# Altium integrated library Linear Technology Power Management Switching Regulator LT1074-LT8705.IntLib: 2252 symbols (part 136 of 148)
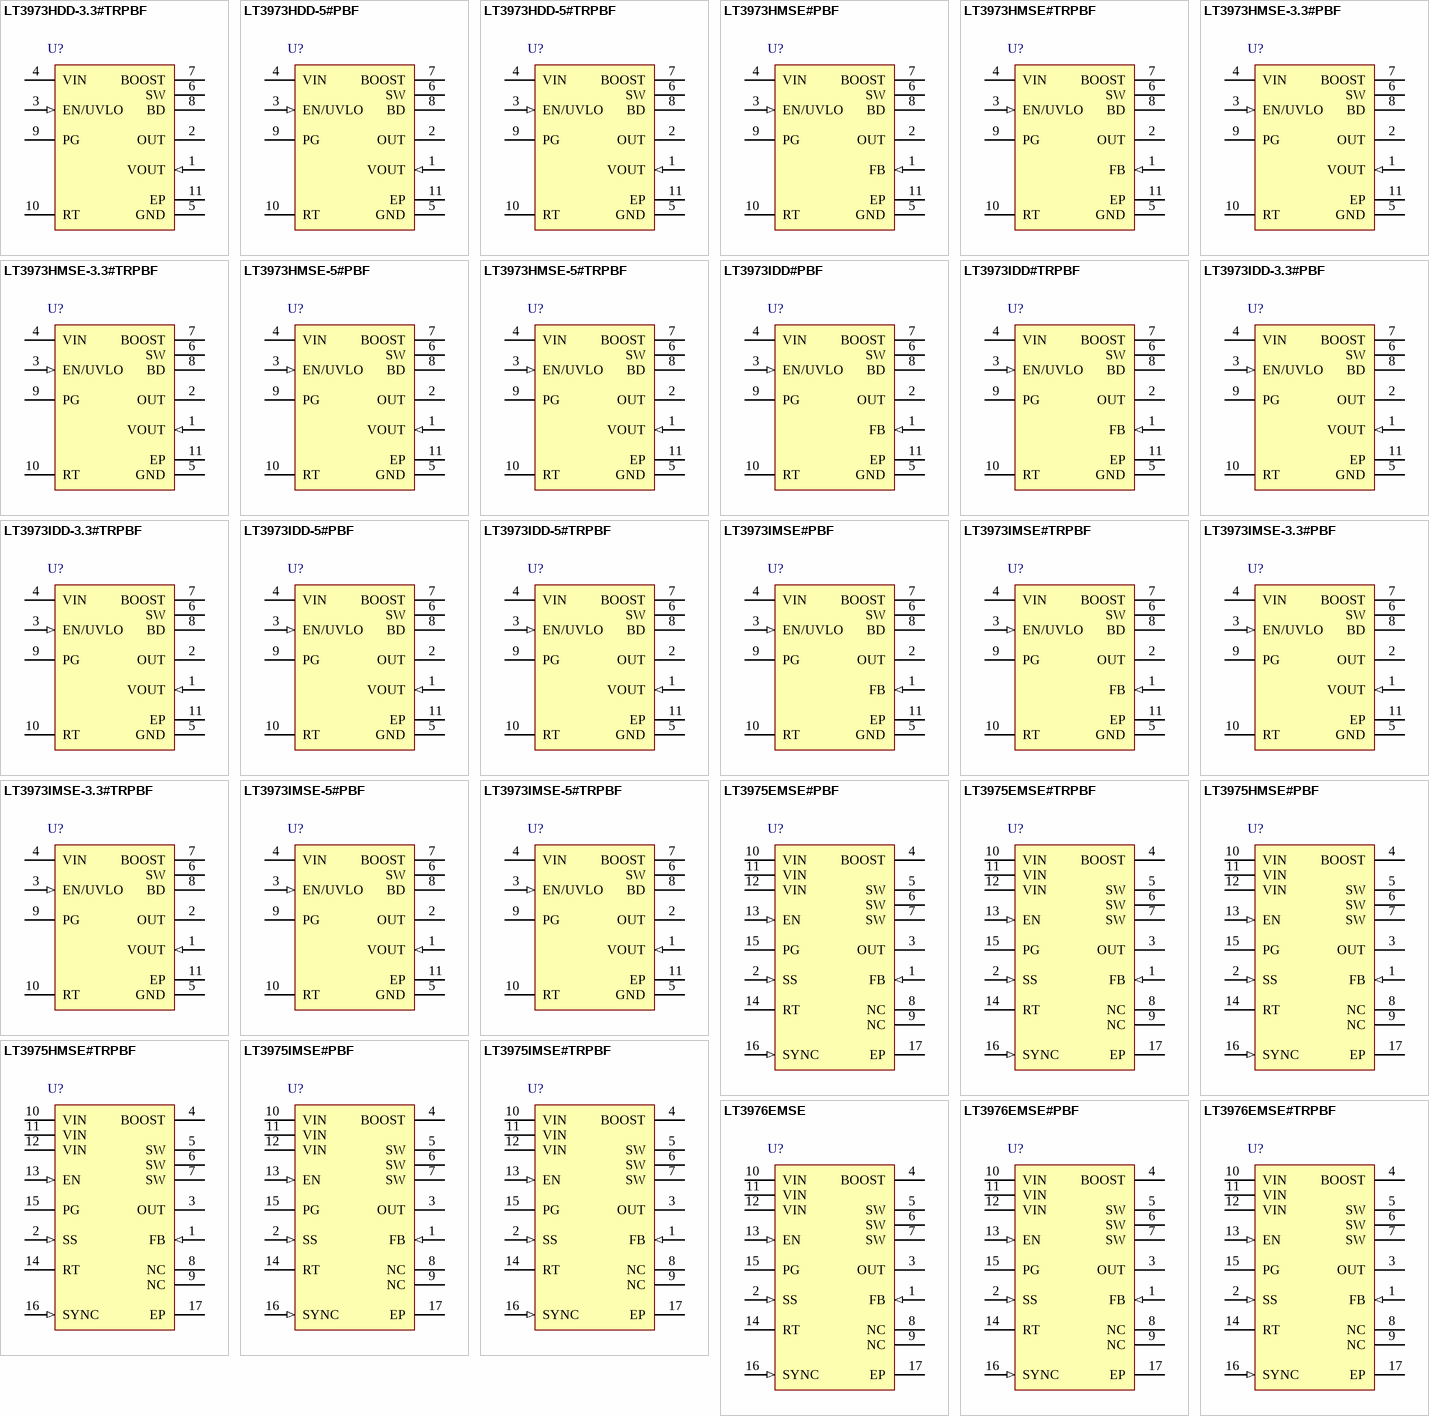
[diagram p206: symbols LT3973HDD-3.3#TRPBF to LT3976EMSE#TRPBF]

## LT3973IMSE#TRPBF
designator U?
750 mA Step-Down Regulator with 2.5 uA Quiescent Current and Integrated Diodes, 10-pin SOP (MSE-10-EDP), -40 to 125 degC, Pb-Free, Tape and Reel; Manufacturer: Linear Technology; PartNumber: LT3973IMSE#TRPBF; Frequency Adjust Range: 200kHz - 2.2MHz; Number of Outputs: 1; DatasheetVersion: Rev. A; PackageVersion: Rev. I, 05/2013; PackageReference: MSE-10; PackageDescription: 10-Pin Plastic MSOP, Exposed Die Pad, Body 3 x 3 mm, Pitch 0.5 mm; Supplier 1: Digi-Key; Supplier Part Number 1: LT3973IMSE#TRPBF-ND; Supplier 2: Newark; Supplier Part Number 2: 78T4085; Packing: Tape and Reel; RoHS: TRUE; Mounting Technology: Surface Mount; ComponentLink1Description: Manufacturer URL; ComponentLink1URL: http://www.linear.com/; ComponentLink2Description: Datasheet; ComponentLink2URL: http://cds.linear.com/docs/en/datasheet/3973fa.pdf; ComponentLink3Description: Package Specification; ComponentLink3URL: http://cds.linear.com/docs/en/packaging/05081664_I_MSE.pdf
footprint LT-MSE-10-EDP_N (SOP, 10-Leads, Body 3.1x3.1mm, Pitch 0.5mm, Thermal Pad 1.88x1.68mm, IPC Medium Density)
footprint LT-MSE-10-EDP_L (SOP, 10-Leads, Body 3.1x3.1mm, Pitch 0.5mm, Thermal Pad 1.88x1.68mm, IPC High Density)
footprint LT-MSE-10-EDP_M (SOP, 10-Leads, Body 3.1x3.1mm, Pitch 0.5mm, Thermal Pad 1.88x1.68mm, IPC Low Density)
pins: 1 FB (in) "The LT3973 regulates the FB  pin to 1.21V. Connect the feedback resistor divider tap  to this pin.", 2 OUT (power) "The LT3973 regulates the VIN to VOUT voltage for dropout conditions. It will also pull current from this pin to charge the boost capacitor when needed. Connect this pin to the output. If programmed output is greater than (See Datasheet)", 3 EN/UVLO (in) "The part is in shutdown when this pin is low and active when this pin is high. The threshold voltage is 1.19V going up with 30mV of hysteresis. Tie to VIN if shutdown feature is not used. The EN/UVLO threshold is accurate (See Datasheet)", 4 VIN (power) "The VIN pin supplies current to the LT3973's  internal circuitry and to the internal power switch. This pin must be locally bypassed.", 5 GND (power) "Ground. The exposed pad must be soldered to the PCB.", 6 SW (power) "The SW pin is the output of an internal power switch. Connect this pin to the inductor.", 7 BOOST "This pin is used to provide a drive voltage, higher than the input voltage, to the internal bipolar NPN power switch.", 8 BD (power) "This pin connects to the anode of the boost diode. This pin also supplies current to the LT3973's internal  regulator when BD is above 3.2V.", 9 PG (oc) "The PG pin is the open-drain output of an internal comparator. PG remains low until the FB pin is within 10% of the final regulation voltage. PG is valid when VIN is above 4.2V and EN/UVLO is high.", 10 RT "A resistor is tied between RT and ground to set the switching frequency.", 11 EP (power) "Ground. The exposed pad must be soldered to the PCB."

## LT3973IMSE-3.3#PBF
designator U?
750 mA Step-Down Regulator with 2.5 uA Quiescent Current and Integrated Diodes, 10-pin SOP (MSE-10-EDP), -40 to 125 degC, Pb-Free; Manufacturer: Linear Technology; PartNumber: LT3973IMSE-3.3#PBF; Frequency Adjust Range: 200kHz - 2.2MHz; Number of Outputs: 1; DatasheetVersion: Rev. A; PackageVersion: Rev. I, 05/2013; PackageReference: MSE-10; PackageDescription: 10-Pin Plastic MSOP, Exposed Die Pad, Body 3 x 3 mm, Pitch 0.5 mm; Supplier 1: Digi-Key; Supplier Part Number 1: LT3973IMSE-3.3#PBF-ND; Supplier 2: Farnell; Supplier Part Number 2: 2115835; Supplier 3: Newark; Supplier Part Number 3: 94T2285; RoHS: TRUE; Mounting Technology: Surface Mount; ComponentLink1Description: Manufacturer URL; ComponentLink1URL: http://www.linear.com/; ComponentLink2Description: Datasheet; ComponentLink2URL: http://cds.linear.com/docs/en/datasheet/3973fa.pdf; ComponentLink3Description: Package Specification; ComponentLink3URL: http://cds.linear.com/docs/en/packaging/05081664_I_MSE.pdf
footprint LT-MSE-10-EDP_N (SOP, 10-Leads, Body 3.1x3.1mm, Pitch 0.5mm, Thermal Pad 1.88x1.68mm, IPC Medium Density)
footprint LT-MSE-10-EDP_L (SOP, 10-Leads, Body 3.1x3.1mm, Pitch 0.5mm, Thermal Pad 1.88x1.68mm, IPC High Density)
footprint LT-MSE-10-EDP_M (SOP, 10-Leads, Body 3.1x3.1mm, Pitch 0.5mm, Thermal Pad 1.88x1.68mm, IPC Low Density)
pins: 1 VOUT (in) "The  LT3973-3.3 and LT3973-5 regulate the VOUT pin to 3.3V  and 5V, respectively. This pin connects to the internal feedback divider that programs the fixed output voltage.", 2 OUT (power) "The LT3973 regulates the VIN to VOUT voltage for dropout conditions. It will also pull current from this pin to charge the boost capacitor when needed. Connect this pin to the output. If programmed output is greater than (See Datasheet)", 3 EN/UVLO (in) "The part is in shutdown when this pin is low and active when this pin is high. The threshold voltage is 1.19V going up with 30mV of hysteresis. Tie to VIN if shutdown feature is not used. The EN/UVLO threshold is accurate (See Datasheet)", 4 VIN (power) "The VIN pin supplies current to the LT3973's  internal circuitry and to the internal power switch. This pin must be locally bypassed.", 5 GND (power) "Ground. The exposed pad must be soldered to the PCB.", 6 SW (power) "The SW pin is the output of an internal power switch. Connect this pin to the inductor.", 7 BOOST "This pin is used to provide a drive voltage, higher than the input voltage, to the internal bipolar NPN power switch.", 8 BD (power) "This pin connects to the anode of the boost diode. This pin also supplies current to the LT3973's internal  regulator when BD is above 3.2V.", 9 PG (oc) "The PG pin is the open-drain output of an internal comparator. PG remains low until the FB pin is within 10% of the final regulation voltage. PG is valid when VIN is above 4.2V and EN/UVLO is high.", 10 RT "A resistor is tied between RT and ground to set the switching frequency.", 11 EP (power) "Ground. The exposed pad must be soldered to the PCB."

## LT3973IMSE-3.3#TRPBF
designator U?
750 mA Step-Down Regulator with 2.5 uA Quiescent Current and Integrated Diodes, 10-pin SOP (MSE-10-EDP), -40 to 125 degC, Pb-Free, Tape and Reel; Manufacturer: Linear Technology; PartNumber: LT3973IMSE-3.3#TRPBF; Frequency Adjust Range: 200kHz - 2.2MHz; Number of Outputs: 1; DatasheetVersion: Rev. A; PackageVersion: Rev. I, 05/2013; PackageReference: MSE-10; PackageDescription: 10-Pin Plastic MSOP, Exposed Die Pad, Body 3 x 3 mm, Pitch 0.5 mm; Supplier 1: Digi-Key; Supplier Part Number 1: LT3973IMSE-3.3#TRPBF-ND; Supplier 2: Newark; Supplier Part Number 2: 94T2286; Packing: Tape and Reel; RoHS: TRUE; Mounting Technology: Surface Mount; ComponentLink1Description: Manufacturer URL; ComponentLink1URL: http://www.linear.com/; ComponentLink2Description: Datasheet; ComponentLink2URL: http://cds.linear.com/docs/en/datasheet/3973fa.pdf; ComponentLink3Description: Package Specification; ComponentLink3URL: http://cds.linear.com/docs/en/packaging/05081664_I_MSE.pdf
footprint LT-MSE-10-EDP_N (SOP, 10-Leads, Body 3.1x3.1mm, Pitch 0.5mm, Thermal Pad 1.88x1.68mm, IPC Medium Density)
footprint LT-MSE-10-EDP_L (SOP, 10-Leads, Body 3.1x3.1mm, Pitch 0.5mm, Thermal Pad 1.88x1.68mm, IPC High Density)
footprint LT-MSE-10-EDP_M (SOP, 10-Leads, Body 3.1x3.1mm, Pitch 0.5mm, Thermal Pad 1.88x1.68mm, IPC Low Density)
pins: 1 VOUT (in) "The  LT3973-3.3 and LT3973-5 regulate the VOUT pin to 3.3V  and 5V, respectively. This pin connects to the internal feedback divider that programs the fixed output voltage.", 2 OUT (power) "The LT3973 regulates the VIN to VOUT voltage for dropout conditions. It will also pull current from this pin to charge the boost capacitor when needed. Connect this pin to the output. If programmed output is greater than (See Datasheet)", 3 EN/UVLO (in) "The part is in shutdown when this pin is low and active when this pin is high. The threshold voltage is 1.19V going up with 30mV of hysteresis. Tie to VIN if shutdown feature is not used. The EN/UVLO threshold is accurate (See Datasheet)", 4 VIN (power) "The VIN pin supplies current to the LT3973's  internal circuitry and to the internal power switch. This pin must be locally bypassed.", 5 GND (power) "Ground. The exposed pad must be soldered to the PCB.", 6 SW (power) "The SW pin is the output of an internal power switch. Connect this pin to the inductor.", 7 BOOST "This pin is used to provide a drive voltage, higher than the input voltage, to the internal bipolar NPN power switch.", 8 BD (power) "This pin connects to the anode of the boost diode. This pin also supplies current to the LT3973's internal  regulator when BD is above 3.2V.", 9 PG (oc) "The PG pin is the open-drain output of an internal comparator. PG remains low until the FB pin is within 10% of the final regulation voltage. PG is valid when VIN is above 4.2V and EN/UVLO is high.", 10 RT "A resistor is tied between RT and ground to set the switching frequency.", 11 EP (power) "Ground. The exposed pad must be soldered to the PCB."

## LT3973IMSE-5#PBF
designator U?
750 mA Step-Down Regulator with 2.5 uA Quiescent Current and Integrated Diodes, 10-pin SOP (MSE-10-EDP), -40 to 125 degC, Pb-Free; Manufacturer: Linear Technology; PartNumber: LT3973IMSE-5#PBF; Frequency Adjust Range: 200kHz - 2.2MHz; Number of Outputs: 1; DatasheetVersion: Rev. A; PackageVersion: Rev. I, 05/2013; PackageReference: MSE-10; PackageDescription: 10-Pin Plastic MSOP, Exposed Die Pad, Body 3 x 3 mm, Pitch 0.5 mm; Supplier 1: Digi-Key; Supplier Part Number 1: LT3973IMSE-5#PBF-ND; Supplier 2: Farnell; Supplier Part Number 2: 2115836; RoHS: TRUE; Mounting Technology: Surface Mount; ComponentLink1Description: Manufacturer URL; ComponentLink1URL: http://www.linear.com/; ComponentLink2Description: Datasheet; ComponentLink2URL: http://cds.linear.com/docs/en/datasheet/3973fa.pdf; ComponentLink3Description: Package Specification; ComponentLink3URL: http://cds.linear.com/docs/en/packaging/05081664_I_MSE.pdf
footprint LT-MSE-10-EDP_N (SOP, 10-Leads, Body 3.1x3.1mm, Pitch 0.5mm, Thermal Pad 1.88x1.68mm, IPC Medium Density)
footprint LT-MSE-10-EDP_L (SOP, 10-Leads, Body 3.1x3.1mm, Pitch 0.5mm, Thermal Pad 1.88x1.68mm, IPC High Density)
footprint LT-MSE-10-EDP_M (SOP, 10-Leads, Body 3.1x3.1mm, Pitch 0.5mm, Thermal Pad 1.88x1.68mm, IPC Low Density)
pins: 1 VOUT (in) "The  LT3973-3.3 and LT3973-5 regulate the VOUT pin to 3.3V  and 5V, respectively. This pin connects to the internal feedback divider that programs the fixed output voltage.", 2 OUT (power) "The LT3973 regulates the VIN to VOUT voltage for dropout conditions. It will also pull current from this pin to charge the boost capacitor when needed. Connect this pin to the output. If programmed output is greater than (See Datasheet)", 3 EN/UVLO (in) "The part is in shutdown when this pin is low and active when this pin is high. The threshold voltage is 1.19V going up with 30mV of hysteresis. Tie to VIN if shutdown feature is not used. The EN/UVLO threshold is accurate (See Datasheet)", 4 VIN (power) "The VIN pin supplies current to the LT3973's  internal circuitry and to the internal power switch. This pin must be locally bypassed.", 5 GND (power) "Ground. The exposed pad must be soldered to the PCB.", 6 SW (power) "The SW pin is the output of an internal power switch. Connect this pin to the inductor.", 7 BOOST "This pin is used to provide a drive voltage, higher than the input voltage, to the internal bipolar NPN power switch.", 8 BD (power) "This pin connects to the anode of the boost diode. This pin also supplies current to the LT3973's internal  regulator when BD is above 3.2V.", 9 PG (oc) "The PG pin is the open-drain output of an internal comparator. PG remains low until the FB pin is within 10% of the final regulation voltage. PG is valid when VIN is above 4.2V and EN/UVLO is high.", 10 RT "A resistor is tied between RT and ground to set the switching frequency.", 11 EP (power) "Ground. The exposed pad must be soldered to the PCB."

## LT3973IMSE-5#TRPBF
designator U?
750 mA Step-Down Regulator with 2.5 uA Quiescent Current and Integrated Diodes, 10-pin SOP (MSE-10-EDP), -40 to 125 degC, Pb-Free, Tape and Reel; Manufacturer: Linear Technology; PartNumber: LT3973IMSE-5#TRPBF; Frequency Adjust Range: 200kHz - 2.2MHz; Number of Outputs: 1; DatasheetVersion: Rev. A; PackageVersion: Rev. I, 05/2013; PackageReference: MSE-10; PackageDescription: 10-Pin Plastic MSOP, Exposed Die Pad, Body 3 x 3 mm, Pitch 0.5 mm; Supplier 1: Digi-Key; Supplier Part Number 1: LT3973IMSE-5#TRPBF-ND; Packing: Tape and Reel; RoHS: TRUE; Mounting Technology: Surface Mount; ComponentLink1Description: Manufacturer URL; ComponentLink1URL: http://www.linear.com/; ComponentLink2Description: Datasheet; ComponentLink2URL: http://cds.linear.com/docs/en/datasheet/3973fa.pdf; ComponentLink3Description: Package Specification; ComponentLink3URL: http://cds.linear.com/docs/en/packaging/05081664_I_MSE.pdf
footprint LT-MSE-10-EDP_N (SOP, 10-Leads, Body 3.1x3.1mm, Pitch 0.5mm, Thermal Pad 1.88x1.68mm, IPC Medium Density)
footprint LT-MSE-10-EDP_L (SOP, 10-Leads, Body 3.1x3.1mm, Pitch 0.5mm, Thermal Pad 1.88x1.68mm, IPC High Density)
footprint LT-MSE-10-EDP_M (SOP, 10-Leads, Body 3.1x3.1mm, Pitch 0.5mm, Thermal Pad 1.88x1.68mm, IPC Low Density)
pins: 1 VOUT (in) "The  LT3973-3.3 and LT3973-5 regulate the VOUT pin to 3.3V  and 5V, respectively. This pin connects to the internal feedback divider that programs the fixed output voltage.", 2 OUT (power) "The LT3973 regulates the VIN to VOUT voltage for dropout conditions. It will also pull current from this pin to charge the boost capacitor when needed. Connect this pin to the output. If programmed output is greater than (See Datasheet)", 3 EN/UVLO (in) "The part is in shutdown when this pin is low and active when this pin is high. The threshold voltage is 1.19V going up with 30mV of hysteresis. Tie to VIN if shutdown feature is not used. The EN/UVLO threshold is accurate (See Datasheet)", 4 VIN (power) "The VIN pin supplies current to the LT3973's  internal circuitry and to the internal power switch. This pin must be locally bypassed.", 5 GND (power) "Ground. The exposed pad must be soldered to the PCB.", 6 SW (power) "The SW pin is the output of an internal power switch. Connect this pin to the inductor.", 7 BOOST "This pin is used to provide a drive voltage, higher than the input voltage, to the internal bipolar NPN power switch.", 8 BD (power) "This pin connects to the anode of the boost diode. This pin also supplies current to the LT3973's internal  regulator when BD is above 3.2V.", 9 PG (oc) "The PG pin is the open-drain output of an internal comparator. PG remains low until the FB pin is within 10% of the final regulation voltage. PG is valid when VIN is above 4.2V and EN/UVLO is high.", 10 RT "A resistor is tied between RT and ground to set the switching frequency.", 11 EP (power) "Ground. The exposed pad must be soldered to the PCB."

## LT3975EMSE#PBF
designator U?
2.5 A, 2 MHz Step-Down Switching Regulator with 2.7 uA Quiescent Current, 16-pin SOP (MSE-16-EDP), -40 to 125 degC, Pb-Free; Manufacturer: Linear Technology; PartNumber: LT3975EMSE#PBF; Frequency Adjust Range: 200kHz - 2MHz; Number of Outputs: 1; PackageVersion: Rev. F, 05/2013; PackageReference: MSE-16; PackageDescription: 16-Pin Plastic MSOP, Exposed Die Pad, Body 4.039 x 3 mm, Pitch 0.5 mm; Supplier 1: Digi-Key; Supplier Part Number 1: LT3975EMSE#PBF-ND; Supplier 2: Newark; Supplier Part Number 2: 24W5394; RoHS: TRUE; Mounting Technology: Surface Mount; ComponentLink1Description: Manufacturer URL; ComponentLink1URL: http://www.linear.com/; ComponentLink2Description: Datasheet; ComponentLink2URL: http://cds.linear.com/docs/en/datasheet/3975f.pdf; ComponentLink3Description: Package Specification; ComponentLink3URL: http://cds.linear.com/docs/en/packaging/05081667_F_MSE16.pdf
footprint LT-MSE-16-EDP_N (SOP, 16-Leads, Body 4.1x3.1mm, Pitch 0.5mm, Thermal Pad 2.95x1.76mm, IPC Medium Density)
footprint LT-MSE-16-EDP_L (SOP, 16-Leads, Body 4.1x3.1mm, Pitch 0.5mm, Thermal Pad 2.95x1.76mm, IPC High Density)
footprint LT-MSE-16-EDP_M (SOP, 16-Leads, Body 4.1x3.1mm, Pitch 0.5mm, Thermal Pad 2.95x1.76mm, IPC Low Density)
pins: 1 FB (in) "The LT3976 regulates the FB pin to 1.197V. Connect the feedback resistor divider tap to this pin. Also, connect a phase lead capacitor between FB and the output. Typically, this capacitor is 10pF.", 2 SS (in) "A capacitor is tied between SS and ground to slowly ramp up the peak current limit of the LT3976 on start-up. There is an internal 1.8uA pull-up on this pin. The soft -start capacitor is actively discharged when the EN pin (See Datasheet)", 3 OUT (power) "This pin is an input to the dropout comparator which maintains a minimum dropout of 500mV between VIN and OUT. The OUT pin connects to the anode of the internal boost diode. This pin also supplies the current to the (See Datasheet)", 4 BOOST "This pin is used to provide a drive voltage, higher than the input voltage, to the internal bipolar NPN power switch.", 5 SW (power) "The SW pin is the output of an internal power switch. Connect these pins to the inductor, catch diode, and boost capacitor. An R-C snubber to GND is needed to ensure robustness under all conditions. Typical values are 2ohm (See Datasheet)", 6 SW (power) "The SW pin is the output of an internal power switch. Connect these pins to the inductor, catch diode, and boost capacitor. An R-C snubber to GND is needed to ensure robustness under all conditions. Typical values are 2ohm (See Datasheet)", 7 SW (power) "The SW pin is the output of an internal power switch. Connect these pins to the inductor, catch diode, and boost capacitor. An R-C snubber to GND is needed to ensure robustness under all conditions. Typical values are 2ohm (See Datasheet)", 8 NC "No Connects. These pins are not connected to internal circuitry.", 9 NC "No Connects. These pins are not connected to internal circuitry.", 10 VIN (power) "The VIN pin supplies current to the LT3976’s internal circuitry and to the internal power switch. These pins must be locally bypassed.", 11 VIN (power) "The VIN pin supplies current to the LT3976’s internal circuitry and to the internal power switch. These pins must be locally bypassed.", 12 VIN (power) "The VIN pin supplies current to the LT3976’s internal circuitry and to the internal power switch. These pins must be locally bypassed.", 13 EN (in) "The part is in shutdown when this pin is low and active when this pin is high. The hysteretic threshold voltage is 1.08V going up and 1.02V going down. The EN threshold is only accurate when VIN is above 4.3V. If VIN is (See Datasheet)", 14 RT "A resistor is tied between RT and ground to set the switching frequency.", 15 PG (hiz) "The PG pin is the open-drain output of an internal comparator. PGOOD remains low until the FB pin is within 8.4% of the final regulation voltage. PGOOD is valid when VIN is above 2V.", 16 SYNC (in) "This is the external clock synchronization input. Ground this pin for low ripple Burst Mode operation at low output loads. Tie to a clock source for synchronization, which will include pulse skipping at low output loads. (See Datasheet)", 17 EP (power) "Ground. The exposed pad must be soldered to the PCB."

## LT3975EMSE#TRPBF
designator U?
2.5 A, 2 MHz Step-Down Switching Regulator with 2.7 uA Quiescent Current, 16-pin SOP (MSE-16-EDP), -40 to 125 degC, Pb-Free, Tape and Reel; Manufacturer: Linear Technology; PartNumber: LT3975EMSE#TRPBF; Frequency Adjust Range: 200kHz - 2MHz; Number of Outputs: 1; PackageVersion: Rev. F, 05/2013; PackageReference: MSE-16; PackageDescription: 16-Pin Plastic MSOP, Exposed Die Pad, Body 4.039 x 3 mm, Pitch 0.5 mm; Supplier 1: Digi-Key; Supplier Part Number 1: LT3975EMSE#TRPBF-ND; Supplier 2: Newark; Supplier Part Number 2: 24W5395; Packing: Tape and Reel; RoHS: TRUE; Mounting Technology: Surface Mount; ComponentLink1Description: Manufacturer URL; ComponentLink1URL: http://www.linear.com/; ComponentLink2Description: Datasheet; ComponentLink2URL: http://cds.linear.com/docs/en/datasheet/3975f.pdf; ComponentLink3Description: Package Specification; ComponentLink3URL: http://cds.linear.com/docs/en/packaging/05081667_F_MSE16.pdf
footprint LT-MSE-16-EDP_N (SOP, 16-Leads, Body 4.1x3.1mm, Pitch 0.5mm, Thermal Pad 2.95x1.76mm, IPC Medium Density)
footprint LT-MSE-16-EDP_L (SOP, 16-Leads, Body 4.1x3.1mm, Pitch 0.5mm, Thermal Pad 2.95x1.76mm, IPC High Density)
footprint LT-MSE-16-EDP_M (SOP, 16-Leads, Body 4.1x3.1mm, Pitch 0.5mm, Thermal Pad 2.95x1.76mm, IPC Low Density)
pins: 1 FB (in) "The LT3976 regulates the FB pin to 1.197V. Connect the feedback resistor divider tap to this pin. Also, connect a phase lead capacitor between FB and the output. Typically, this capacitor is 10pF.", 2 SS (in) "A capacitor is tied between SS and ground to slowly ramp up the peak current limit of the LT3976 on start-up. There is an internal 1.8uA pull-up on this pin. The soft -start capacitor is actively discharged when the EN pin (See Datasheet)", 3 OUT (power) "This pin is an input to the dropout comparator which maintains a minimum dropout of 500mV between VIN and OUT. The OUT pin connects to the anode of the internal boost diode. This pin also supplies the current to the (See Datasheet)", 4 BOOST "This pin is used to provide a drive voltage, higher than the input voltage, to the internal bipolar NPN power switch.", 5 SW (power) "The SW pin is the output of an internal power switch. Connect these pins to the inductor, catch diode, and boost capacitor. An R-C snubber to GND is needed to ensure robustness under all conditions. Typical values are 2ohm (See Datasheet)", 6 SW (power) "The SW pin is the output of an internal power switch. Connect these pins to the inductor, catch diode, and boost capacitor. An R-C snubber to GND is needed to ensure robustness under all conditions. Typical values are 2ohm (See Datasheet)", 7 SW (power) "The SW pin is the output of an internal power switch. Connect these pins to the inductor, catch diode, and boost capacitor. An R-C snubber to GND is needed to ensure robustness under all conditions. Typical values are 2ohm (See Datasheet)", 8 NC "No Connects. These pins are not connected to internal circuitry.", 9 NC "No Connects. These pins are not connected to internal circuitry.", 10 VIN (power) "The VIN pin supplies current to the LT3976’s internal circuitry and to the internal power switch. These pins must be locally bypassed.", 11 VIN (power) "The VIN pin supplies current to the LT3976’s internal circuitry and to the internal power switch. These pins must be locally bypassed.", 12 VIN (power) "The VIN pin supplies current to the LT3976’s internal circuitry and to the internal power switch. These pins must be locally bypassed.", 13 EN (in) "The part is in shutdown when this pin is low and active when this pin is high. The hysteretic threshold voltage is 1.08V going up and 1.02V going down. The EN threshold is only accurate when VIN is above 4.3V. If VIN is (See Datasheet)", 14 RT "A resistor is tied between RT and ground to set the switching frequency.", 15 PG (hiz) "The PG pin is the open-drain output of an internal comparator. PGOOD remains low until the FB pin is within 8.4% of the final regulation voltage. PGOOD is valid when VIN is above 2V.", 16 SYNC (in) "This is the external clock synchronization input. Ground this pin for low ripple Burst Mode operation at low output loads. Tie to a clock source for synchronization, which will include pulse skipping at low output loads. (See Datasheet)", 17 EP (power) "Ground. The exposed pad must be soldered to the PCB."

## LT3975HMSE#PBF
designator U?
2.5 A, 2 MHz Step-Down Switching Regulator with 2.7 uA Quiescent Current, 16-pin SOP (MSE-16-EDP), -40 to 150 degC, Pb-Free; Manufacturer: Linear Technology; PartNumber: LT3975HMSE#PBF; Frequency Adjust Range: 200kHz - 2MHz; Number of Outputs: 1; PackageVersion: Rev. F, 05/2013; PackageReference: MSE-16; PackageDescription: 16-Pin Plastic MSOP, Exposed Die Pad, Body 4.039 x 3 mm, Pitch 0.5 mm; Supplier 1: Digi-Key; Supplier Part Number 1: LT3975HMSE#PBF-ND; Supplier 2: Newark; Supplier Part Number 2: 24W5396; RoHS: TRUE; Mounting Technology: Surface Mount; ComponentLink1Description: Manufacturer URL; ComponentLink1URL: http://www.linear.com/; ComponentLink2Description: Datasheet; ComponentLink2URL: http://cds.linear.com/docs/en/datasheet/3975f.pdf; ComponentLink3Description: Package Specification; ComponentLink3URL: http://cds.linear.com/docs/en/packaging/05081667_F_MSE16.pdf
footprint LT-MSE-16-EDP_N (SOP, 16-Leads, Body 4.1x3.1mm, Pitch 0.5mm, Thermal Pad 2.95x1.76mm, IPC Medium Density)
footprint LT-MSE-16-EDP_L (SOP, 16-Leads, Body 4.1x3.1mm, Pitch 0.5mm, Thermal Pad 2.95x1.76mm, IPC High Density)
footprint LT-MSE-16-EDP_M (SOP, 16-Leads, Body 4.1x3.1mm, Pitch 0.5mm, Thermal Pad 2.95x1.76mm, IPC Low Density)
pins: 1 FB (in) "The LT3976 regulates the FB pin to 1.197V. Connect the feedback resistor divider tap to this pin. Also, connect a phase lead capacitor between FB and the output. Typically, this capacitor is 10pF.", 2 SS (in) "A capacitor is tied between SS and ground to slowly ramp up the peak current limit of the LT3976 on start-up. There is an internal 1.8uA pull-up on this pin. The soft -start capacitor is actively discharged when the EN pin (See Datasheet)", 3 OUT (power) "This pin is an input to the dropout comparator which maintains a minimum dropout of 500mV between VIN and OUT. The OUT pin connects to the anode of the internal boost diode. This pin also supplies the current to the (See Datasheet)", 4 BOOST "This pin is used to provide a drive voltage, higher than the input voltage, to the internal bipolar NPN power switch.", 5 SW (power) "The SW pin is the output of an internal power switch. Connect these pins to the inductor, catch diode, and boost capacitor. An R-C snubber to GND is needed to ensure robustness under all conditions. Typical values are 2ohm (See Datasheet)", 6 SW (power) "The SW pin is the output of an internal power switch. Connect these pins to the inductor, catch diode, and boost capacitor. An R-C snubber to GND is needed to ensure robustness under all conditions. Typical values are 2ohm (See Datasheet)", 7 SW (power) "The SW pin is the output of an internal power switch. Connect these pins to the inductor, catch diode, and boost capacitor. An R-C snubber to GND is needed to ensure robustness under all conditions. Typical values are 2ohm (See Datasheet)", 8 NC "No Connects. These pins are not connected to internal circuitry.", 9 NC "No Connects. These pins are not connected to internal circuitry.", 10 VIN (power) "The VIN pin supplies current to the LT3976’s internal circuitry and to the internal power switch. These pins must be locally bypassed.", 11 VIN (power) "The VIN pin supplies current to the LT3976’s internal circuitry and to the internal power switch. These pins must be locally bypassed.", 12 VIN (power) "The VIN pin supplies current to the LT3976’s internal circuitry and to the internal power switch. These pins must be locally bypassed.", 13 EN (in) "The part is in shutdown when this pin is low and active when this pin is high. The hysteretic threshold voltage is 1.08V going up and 1.02V going down. The EN threshold is only accurate when VIN is above 4.3V. If VIN is (See Datasheet)", 14 RT "A resistor is tied between RT and ground to set the switching frequency.", 15 PG (hiz) "The PG pin is the open-drain output of an internal comparator. PGOOD remains low until the FB pin is within 8.4% of the final regulation voltage. PGOOD is valid when VIN is above 2V.", 16 SYNC (in) "This is the external clock synchronization input. Ground this pin for low ripple Burst Mode operation at low output loads. Tie to a clock source for synchronization, which will include pulse skipping at low output loads. (See Datasheet)", 17 EP (power) "Ground. The exposed pad must be soldered to the PCB."

## LT3975HMSE#TRPBF
designator U?
2.5 A, 2 MHz Step-Down Switching Regulator with 2.7 uA Quiescent Current, 16-pin SOP (MSE-16-EDP), -40 to 150 degC, Pb-Free, Tape and Reel; Manufacturer: Linear Technology; PartNumber: LT3975HMSE#TRPBF; Frequency Adjust Range: 200kHz - 2MHz; Number of Outputs: 1; PackageVersion: Rev. F, 05/2013; PackageReference: MSE-16; PackageDescription: 16-Pin Plastic MSOP, Exposed Die Pad, Body 4.039 x 3 mm, Pitch 0.5 mm; Supplier 1: Digi-Key; Supplier Part Number 1: LT3975HMSE#TRPBF-ND; Supplier 2: Newark; Supplier Part Number 2: 24W5397; Packing: Tape and Reel; RoHS: TRUE; Mounting Technology: Surface Mount; ComponentLink1Description: Manufacturer URL; ComponentLink1URL: http://www.linear.com/; ComponentLink2Description: Datasheet; ComponentLink2URL: http://cds.linear.com/docs/en/datasheet/3975f.pdf; ComponentLink3Description: Package Specification; ComponentLink3URL: http://cds.linear.com/docs/en/packaging/05081667_F_MSE16.pdf
footprint LT-MSE-16-EDP_N (SOP, 16-Leads, Body 4.1x3.1mm, Pitch 0.5mm, Thermal Pad 2.95x1.76mm, IPC Medium Density)
footprint LT-MSE-16-EDP_L (SOP, 16-Leads, Body 4.1x3.1mm, Pitch 0.5mm, Thermal Pad 2.95x1.76mm, IPC High Density)
footprint LT-MSE-16-EDP_M (SOP, 16-Leads, Body 4.1x3.1mm, Pitch 0.5mm, Thermal Pad 2.95x1.76mm, IPC Low Density)
pins: 1 FB (in) "The LT3976 regulates the FB pin to 1.197V. Connect the feedback resistor divider tap to this pin. Also, connect a phase lead capacitor between FB and the output. Typically, this capacitor is 10pF.", 2 SS (in) "A capacitor is tied between SS and ground to slowly ramp up the peak current limit of the LT3976 on start-up. There is an internal 1.8uA pull-up on this pin. The soft -start capacitor is actively discharged when the EN pin (See Datasheet)", 3 OUT (power) "This pin is an input to the dropout comparator which maintains a minimum dropout of 500mV between VIN and OUT. The OUT pin connects to the anode of the internal boost diode. This pin also supplies the current to the (See Datasheet)", 4 BOOST "This pin is used to provide a drive voltage, higher than the input voltage, to the internal bipolar NPN power switch.", 5 SW (power) "The SW pin is the output of an internal power switch. Connect these pins to the inductor, catch diode, and boost capacitor. An R-C snubber to GND is needed to ensure robustness under all conditions. Typical values are 2ohm (See Datasheet)", 6 SW (power) "The SW pin is the output of an internal power switch. Connect these pins to the inductor, catch diode, and boost capacitor. An R-C snubber to GND is needed to ensure robustness under all conditions. Typical values are 2ohm (See Datasheet)", 7 SW (power) "The SW pin is the output of an internal power switch. Connect these pins to the inductor, catch diode, and boost capacitor. An R-C snubber to GND is needed to ensure robustness under all conditions. Typical values are 2ohm (See Datasheet)", 8 NC "No Connects. These pins are not connected to internal circuitry.", 9 NC "No Connects. These pins are not connected to internal circuitry.", 10 VIN (power) "The VIN pin supplies current to the LT3976’s internal circuitry and to the internal power switch. These pins must be locally bypassed.", 11 VIN (power) "The VIN pin supplies current to the LT3976’s internal circuitry and to the internal power switch. These pins must be locally bypassed.", 12 VIN (power) "The VIN pin supplies current to the LT3976’s internal circuitry and to the internal power switch. These pins must be locally bypassed.", 13 EN (in) "The part is in shutdown when this pin is low and active when this pin is high. The hysteretic threshold voltage is 1.08V going up and 1.02V going down. The EN threshold is only accurate when VIN is above 4.3V. If VIN is (See Datasheet)", 14 RT "A resistor is tied between RT and ground to set the switching frequency.", 15 PG (hiz) "The PG pin is the open-drain output of an internal comparator. PGOOD remains low until the FB pin is within 8.4% of the final regulation voltage. PGOOD is valid when VIN is above 2V.", 16 SYNC (in) "This is the external clock synchronization input. Ground this pin for low ripple Burst Mode operation at low output loads. Tie to a clock source for synchronization, which will include pulse skipping at low output loads. (See Datasheet)", 17 EP (power) "Ground. The exposed pad must be soldered to the PCB."

## LT3975IMSE#PBF
designator U?
2.5 A, 2 MHz Step-Down Switching Regulator with 2.7 uA Quiescent Current, 16-pin SOP (MSE-16-EDP), -40 to 125 degC, Pb-Free; Manufacturer: Linear Technology; PartNumber: LT3975IMSE#PBF; Frequency Adjust Range: 200kHz - 2MHz; Number of Outputs: 1; PackageVersion: Rev. F, 05/2013; PackageReference: MSE-16; PackageDescription: 16-Pin Plastic MSOP, Exposed Die Pad, Body 4.039 x 3 mm, Pitch 0.5 mm; Supplier 1: Digi-Key; Supplier Part Number 1: LT3975IMSE#PBF-ND; Supplier 2: Newark; Supplier Part Number 2: 24W5398; RoHS: TRUE; Mounting Technology: Surface Mount; ComponentLink1Description: Manufacturer URL; ComponentLink1URL: http://www.linear.com/; ComponentLink2Description: Datasheet; ComponentLink2URL: http://cds.linear.com/docs/en/datasheet/3975f.pdf; ComponentLink3Description: Package Specification; ComponentLink3URL: http://cds.linear.com/docs/en/packaging/05081667_F_MSE16.pdf
footprint LT-MSE-16-EDP_N (SOP, 16-Leads, Body 4.1x3.1mm, Pitch 0.5mm, Thermal Pad 2.95x1.76mm, IPC Medium Density)
footprint LT-MSE-16-EDP_L (SOP, 16-Leads, Body 4.1x3.1mm, Pitch 0.5mm, Thermal Pad 2.95x1.76mm, IPC High Density)
footprint LT-MSE-16-EDP_M (SOP, 16-Leads, Body 4.1x3.1mm, Pitch 0.5mm, Thermal Pad 2.95x1.76mm, IPC Low Density)
pins: 1 FB (in) "The LT3976 regulates the FB pin to 1.197V. Connect the feedback resistor divider tap to this pin. Also, connect a phase lead capacitor between FB and the output. Typically, this capacitor is 10pF.", 2 SS (in) "A capacitor is tied between SS and ground to slowly ramp up the peak current limit of the LT3976 on start-up. There is an internal 1.8uA pull-up on this pin. The soft -start capacitor is actively discharged when the EN pin (See Datasheet)", 3 OUT (power) "This pin is an input to the dropout comparator which maintains a minimum dropout of 500mV between VIN and OUT. The OUT pin connects to the anode of the internal boost diode. This pin also supplies the current to the (See Datasheet)", 4 BOOST "This pin is used to provide a drive voltage, higher than the input voltage, to the internal bipolar NPN power switch.", 5 SW (power) "The SW pin is the output of an internal power switch. Connect these pins to the inductor, catch diode, and boost capacitor. An R-C snubber to GND is needed to ensure robustness under all conditions. Typical values are 2ohm (See Datasheet)", 6 SW (power) "The SW pin is the output of an internal power switch. Connect these pins to the inductor, catch diode, and boost capacitor. An R-C snubber to GND is needed to ensure robustness under all conditions. Typical values are 2ohm (See Datasheet)", 7 SW (power) "The SW pin is the output of an internal power switch. Connect these pins to the inductor, catch diode, and boost capacitor. An R-C snubber to GND is needed to ensure robustness under all conditions. Typical values are 2ohm (See Datasheet)", 8 NC "No Connects. These pins are not connected to internal circuitry.", 9 NC "No Connects. These pins are not connected to internal circuitry.", 10 VIN (power) "The VIN pin supplies current to the LT3976’s internal circuitry and to the internal power switch. These pins must be locally bypassed.", 11 VIN (power) "The VIN pin supplies current to the LT3976’s internal circuitry and to the internal power switch. These pins must be locally bypassed.", 12 VIN (power) "The VIN pin supplies current to the LT3976’s internal circuitry and to the internal power switch. These pins must be locally bypassed.", 13 EN (in) "The part is in shutdown when this pin is low and active when this pin is high. The hysteretic threshold voltage is 1.08V going up and 1.02V going down. The EN threshold is only accurate when VIN is above 4.3V. If VIN is (See Datasheet)", 14 RT "A resistor is tied between RT and ground to set the switching frequency.", 15 PG (hiz) "The PG pin is the open-drain output of an internal comparator. PGOOD remains low until the FB pin is within 8.4% of the final regulation voltage. PGOOD is valid when VIN is above 2V.", 16 SYNC (in) "This is the external clock synchronization input. Ground this pin for low ripple Burst Mode operation at low output loads. Tie to a clock source for synchronization, which will include pulse skipping at low output loads. (See Datasheet)", 17 EP (power) "Ground. The exposed pad must be soldered to the PCB."

## LT3975IMSE#TRPBF
designator U?
2.5 A, 2 MHz Step-Down Switching Regulator with 2.7 uA Quiescent Current, 16-pin SOP (MSE-16-EDP), -40 to 125 degC, Pb-Free, Tape and Reel; Manufacturer: Linear Technology; PartNumber: LT3975IMSE#TRPBF; Frequency Adjust Range: 200kHz - 2MHz; Number of Outputs: 1; PackageVersion: Rev. F, 05/2013; PackageReference: MSE-16; PackageDescription: 16-Pin Plastic MSOP, Exposed Die Pad, Body 4.039 x 3 mm, Pitch 0.5 mm; Supplier 1: Digi-Key; Supplier Part Number 1: LT3975IMSE#TRPBF-ND; Supplier 2: Newark; Supplier Part Number 2: 24W5399; Packing: Tape and Reel; RoHS: TRUE; Mounting Technology: Surface Mount; ComponentLink1Description: Manufacturer URL; ComponentLink1URL: http://www.linear.com/; ComponentLink2Description: Datasheet; ComponentLink2URL: http://cds.linear.com/docs/en/datasheet/3975f.pdf; ComponentLink3Description: Package Specification; ComponentLink3URL: http://cds.linear.com/docs/en/packaging/05081667_F_MSE16.pdf
footprint LT-MSE-16-EDP_N (SOP, 16-Leads, Body 4.1x3.1mm, Pitch 0.5mm, Thermal Pad 2.95x1.76mm, IPC Medium Density)
footprint LT-MSE-16-EDP_L (SOP, 16-Leads, Body 4.1x3.1mm, Pitch 0.5mm, Thermal Pad 2.95x1.76mm, IPC High Density)
footprint LT-MSE-16-EDP_M (SOP, 16-Leads, Body 4.1x3.1mm, Pitch 0.5mm, Thermal Pad 2.95x1.76mm, IPC Low Density)
pins: 1 FB (in) "The LT3976 regulates the FB pin to 1.197V. Connect the feedback resistor divider tap to this pin. Also, connect a phase lead capacitor between FB and the output. Typically, this capacitor is 10pF.", 2 SS (in) "A capacitor is tied between SS and ground to slowly ramp up the peak current limit of the LT3976 on start-up. There is an internal 1.8uA pull-up on this pin. The soft -start capacitor is actively discharged when the EN pin (See Datasheet)", 3 OUT (power) "This pin is an input to the dropout comparator which maintains a minimum dropout of 500mV between VIN and OUT. The OUT pin connects to the anode of the internal boost diode. This pin also supplies the current to the (See Datasheet)", 4 BOOST "This pin is used to provide a drive voltage, higher than the input voltage, to the internal bipolar NPN power switch.", 5 SW (power) "The SW pin is the output of an internal power switch. Connect these pins to the inductor, catch diode, and boost capacitor. An R-C snubber to GND is needed to ensure robustness under all conditions. Typical values are 2ohm (See Datasheet)", 6 SW (power) "The SW pin is the output of an internal power switch. Connect these pins to the inductor, catch diode, and boost capacitor. An R-C snubber to GND is needed to ensure robustness under all conditions. Typical values are 2ohm (See Datasheet)", 7 SW (power) "The SW pin is the output of an internal power switch. Connect these pins to the inductor, catch diode, and boost capacitor. An R-C snubber to GND is needed to ensure robustness under all conditions. Typical values are 2ohm (See Datasheet)", 8 NC "No Connects. These pins are not connected to internal circuitry.", 9 NC "No Connects. These pins are not connected to internal circuitry.", 10 VIN (power) "The VIN pin supplies current to the LT3976’s internal circuitry and to the internal power switch. These pins must be locally bypassed.", 11 VIN (power) "The VIN pin supplies current to the LT3976’s internal circuitry and to the internal power switch. These pins must be locally bypassed.", 12 VIN (power) "The VIN pin supplies current to the LT3976’s internal circuitry and to the internal power switch. These pins must be locally bypassed.", 13 EN (in) "The part is in shutdown when this pin is low and active when this pin is high. The hysteretic threshold voltage is 1.08V going up and 1.02V going down. The EN threshold is only accurate when VIN is above 4.3V. If VIN is (See Datasheet)", 14 RT "A resistor is tied between RT and ground to set the switching frequency.", 15 PG (hiz) "The PG pin is the open-drain output of an internal comparator. PGOOD remains low until the FB pin is within 8.4% of the final regulation voltage. PGOOD is valid when VIN is above 2V.", 16 SYNC (in) "This is the external clock synchronization input. Ground this pin for low ripple Burst Mode operation at low output loads. Tie to a clock source for synchronization, which will include pulse skipping at low output loads. (See Datasheet)", 17 EP (power) "Ground. The exposed pad must be soldered to the PCB."

## LT3976EMSE
designator U?
5 A, 2 MHz Step-Down Switching Regulator with 3.3 uA Quiescent Current, 16-pin SOP (MSE-16-EDP), -40 to 125 degC; Manufacturer: Linear Technology; PartNumber: LT3976EMSE; Frequency Adjust Range: 200kHz - 2MHz; Number of Outputs: 1; PackageVersion: Rev. F, 05/2013; PackageReference: MSE-16; PackageDescription: 16-Pin Plastic MSOP, Exposed Die Pad, Body 4.039 x 3 mm, Pitch 0.5 mm; RoHS: FALSE; Mounting Technology: Surface Mount; ComponentLink1Description: Manufacturer URL; ComponentLink1URL: http://www.linear.com/; ComponentLink2Description: Datasheet; ComponentLink2URL: http://cds.linear.com/docs/en/datasheet/3976f.pdf; ComponentLink3Description: Package Specification; ComponentLink3URL: http://cds.linear.com/docs/en/packaging/05081667_F_MSE16.pdf
footprint LT-MSE-16-EDP_N (SOP, 16-Leads, Body 4.1x3.1mm, Pitch 0.5mm, Thermal Pad 2.95x1.76mm, IPC Medium Density)
footprint LT-MSE-16-EDP_L (SOP, 16-Leads, Body 4.1x3.1mm, Pitch 0.5mm, Thermal Pad 2.95x1.76mm, IPC High Density)
footprint LT-MSE-16-EDP_M (SOP, 16-Leads, Body 4.1x3.1mm, Pitch 0.5mm, Thermal Pad 2.95x1.76mm, IPC Low Density)
pins: 1 FB (in) "The LT3976 regulates the FB pin to 1.197V. Connect the feedback resistor divider tap to this pin. Also, connect a phase lead capacitor between FB and the output. Typically, this capacitor is 10pF.", 2 SS (in) "A capacitor is tied between SS and ground to slowly ramp up the peak current limit of the LT3976 on start-up. There is an internal 1.8uA pull-up on this pin. The soft -start capacitor is actively discharged when the EN pin (See Datasheet)", 3 OUT (power) "This pin is an input to the dropout comparator which maintains a minimum dropout of 500mV between VIN and OUT. The OUT pin connects to the anode of the internal boost diode. This pin also supplies the current to the (See Datasheet)", 4 BOOST "This pin is used to provide a drive voltage, higher than the input voltage, to the internal bipolar NPN power switch.", 5 SW (power) "The SW pin is the output of an internal power switch. Connect these pins to the inductor, catch diode, and boost capacitor. An R-C snubber to GND is needed to ensure robustness under all conditions. Typical values are 2ohm (See Datasheet)", 6 SW (power) "The SW pin is the output of an internal power switch. Connect these pins to the inductor, catch diode, and boost capacitor. An R-C snubber to GND is needed to ensure robustness under all conditions. Typical values are 2ohm (See Datasheet)", 7 SW (power) "The SW pin is the output of an internal power switch. Connect these pins to the inductor, catch diode, and boost capacitor. An R-C snubber to GND is needed to ensure robustness under all conditions. Typical values are 2ohm (See Datasheet)", 8 NC "No Connects. These pins are not connected to internal circuitry.", 9 NC "No Connects. These pins are not connected to internal circuitry.", 10 VIN (power) "The VIN pin supplies current to the LT3976’s internal circuitry and to the internal power switch. These pins must be locally bypassed.", 11 VIN (power) "The VIN pin supplies current to the LT3976’s internal circuitry and to the internal power switch. These pins must be locally bypassed.", 12 VIN (power) "The VIN pin supplies current to the LT3976’s internal circuitry and to the internal power switch. These pins must be locally bypassed.", 13 EN (in) "The part is in shutdown when this pin is low and active when this pin is high. The hysteretic threshold voltage is 1.08V going up and 1.02V going down. The EN threshold is only accurate when VIN is above 4.3V. If VIN is (See Datasheet)", 14 RT "A resistor is tied between RT and ground to set the switching frequency.", 15 PG (hiz) "The PG pin is the open-drain output of an internal comparator. PGOOD remains low until the FB pin is within 8.4% of the final regulation voltage. PGOOD is valid when VIN is above 2V.", 16 SYNC (in) "This is the external clock synchronization input. Ground this pin for low ripple Burst Mode operation at low output loads. Tie to a clock source for synchronization, which will include pulse skipping at low output loads. (See Datasheet)", 17 EP (power) "Ground. The exposed pad must be soldered to the PCB."

## LT3976EMSE#PBF
designator U?
5 A, 2 MHz Step-Down Switching Regulator with 3.3 uA Quiescent Current, 16-pin SOP (MSE-16-EDP), -40 to 125 degC, Pb-Free; Manufacturer: Linear Technology; PartNumber: LT3976EMSE#PBF; Frequency Adjust Range: 200kHz - 2MHz; Number of Outputs: 1; PackageVersion: Rev. F, 05/2013; PackageReference: MSE-16; PackageDescription: 16-Pin Plastic MSOP, Exposed Die Pad, Body 4.039 x 3 mm, Pitch 0.5 mm; Supplier 1: Digi-Key; Supplier Part Number 1: LT3976EMSE#PBF-ND; Supplier 2: Farnell; Supplier Part Number 2: 2215131; Supplier 3: Newark; Supplier Part Number 3: 44W6857; RoHS: TRUE; Mounting Technology: Surface Mount; ComponentLink1Description: Manufacturer URL; ComponentLink1URL: http://www.linear.com/; ComponentLink2Description: Datasheet; ComponentLink2URL: http://cds.linear.com/docs/en/datasheet/3976f.pdf; ComponentLink3Description: Package Specification; ComponentLink3URL: http://cds.linear.com/docs/en/packaging/05081667_F_MSE16.pdf
footprint LT-MSE-16-EDP_N (SOP, 16-Leads, Body 4.1x3.1mm, Pitch 0.5mm, Thermal Pad 2.95x1.76mm, IPC Medium Density)
footprint LT-MSE-16-EDP_L (SOP, 16-Leads, Body 4.1x3.1mm, Pitch 0.5mm, Thermal Pad 2.95x1.76mm, IPC High Density)
footprint LT-MSE-16-EDP_M (SOP, 16-Leads, Body 4.1x3.1mm, Pitch 0.5mm, Thermal Pad 2.95x1.76mm, IPC Low Density)
pins: 1 FB (in) "The LT3976 regulates the FB pin to 1.197V. Connect the feedback resistor divider tap to this pin. Also, connect a phase lead capacitor between FB and the output. Typically, this capacitor is 10pF.", 2 SS (in) "A capacitor is tied between SS and ground to slowly ramp up the peak current limit of the LT3976 on start-up. There is an internal 1.8uA pull-up on this pin. The soft -start capacitor is actively discharged when the EN pin (See Datasheet)", 3 OUT (power) "This pin is an input to the dropout comparator which maintains a minimum dropout of 500mV between VIN and OUT. The OUT pin connects to the anode of the internal boost diode. This pin also supplies the current to the (See Datasheet)", 4 BOOST "This pin is used to provide a drive voltage, higher than the input voltage, to the internal bipolar NPN power switch.", 5 SW (power) "The SW pin is the output of an internal power switch. Connect these pins to the inductor, catch diode, and boost capacitor. An R-C snubber to GND is needed to ensure robustness under all conditions. Typical values are 2ohm (See Datasheet)", 6 SW (power) "The SW pin is the output of an internal power switch. Connect these pins to the inductor, catch diode, and boost capacitor. An R-C snubber to GND is needed to ensure robustness under all conditions. Typical values are 2ohm (See Datasheet)", 7 SW (power) "The SW pin is the output of an internal power switch. Connect these pins to the inductor, catch diode, and boost capacitor. An R-C snubber to GND is needed to ensure robustness under all conditions. Typical values are 2ohm (See Datasheet)", 8 NC "No Connects. These pins are not connected to internal circuitry.", 9 NC "No Connects. These pins are not connected to internal circuitry.", 10 VIN (power) "The VIN pin supplies current to the LT3976’s internal circuitry and to the internal power switch. These pins must be locally bypassed.", 11 VIN (power) "The VIN pin supplies current to the LT3976’s internal circuitry and to the internal power switch. These pins must be locally bypassed.", 12 VIN (power) "The VIN pin supplies current to the LT3976’s internal circuitry and to the internal power switch. These pins must be locally bypassed.", 13 EN (in) "The part is in shutdown when this pin is low and active when this pin is high. The hysteretic threshold voltage is 1.08V going up and 1.02V going down. The EN threshold is only accurate when VIN is above 4.3V. If VIN is (See Datasheet)", 14 RT "A resistor is tied between RT and ground to set the switching frequency.", 15 PG (hiz) "The PG pin is the open-drain output of an internal comparator. PGOOD remains low until the FB pin is within 8.4% of the final regulation voltage. PGOOD is valid when VIN is above 2V.", 16 SYNC (in) "This is the external clock synchronization input. Ground this pin for low ripple Burst Mode operation at low output loads. Tie to a clock source for synchronization, which will include pulse skipping at low output loads. (See Datasheet)", 17 EP (power) "Ground. The exposed pad must be soldered to the PCB."